# Altium footprint library Library v1.9.PcbLib: 90 footprints (part 3 of 6)
Each footprint in its own frame and in the unit in brackets; x right, y up, seen from the top. Pads: shape width x height; smd on the part's side, far side on the other; paste and mask are expansions set on the pad; w line width, h text height; cw(c..) or ccw(c..) is an arc to the next point about the centre after c.
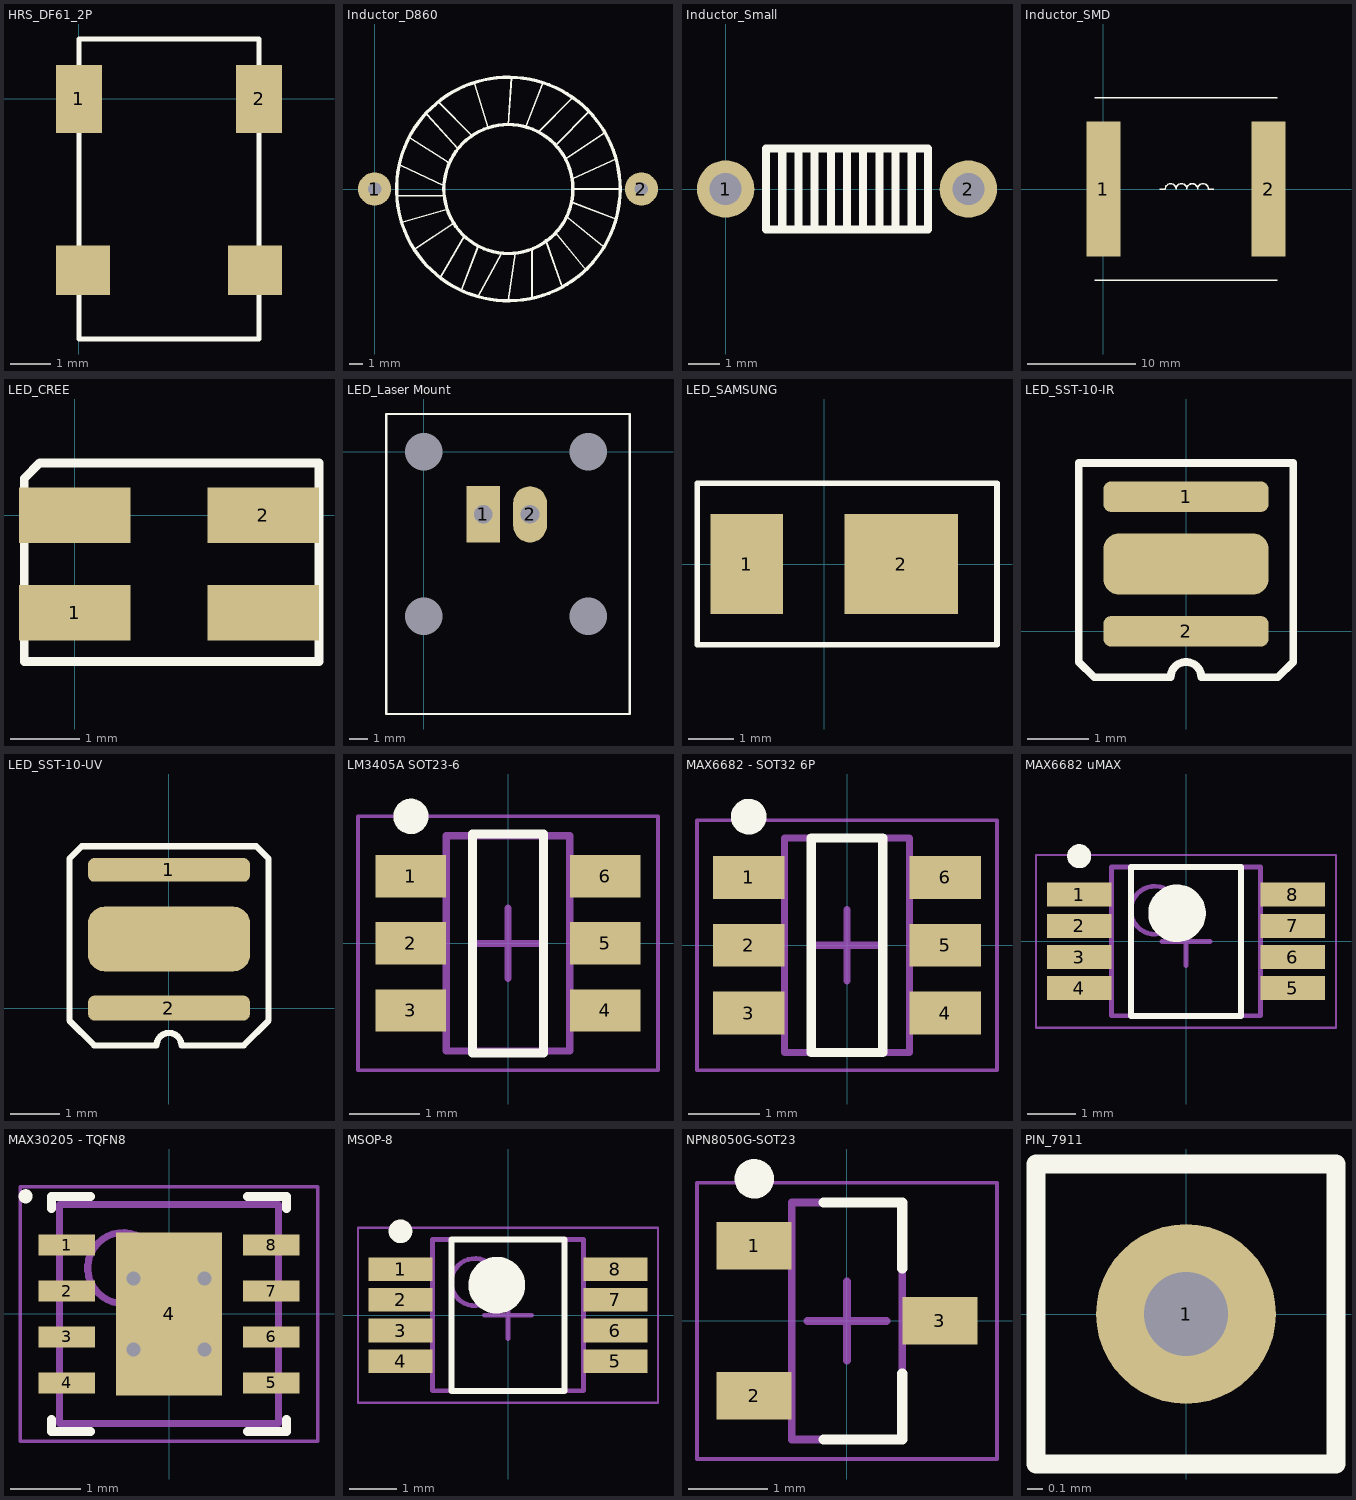
[diagram p2: the footprints below, top view; thin cyan lines are the x and y axes]

## HRS_DF61_2P [mm]
pads (4):
  rect 1.15x1.7 smd: 1(0,0) 2(4.5,0)
  rect 1.35x1.24 smd: ""(0.1,-4.28) ""(4.4,-4.28)
Top Overlay:
  lines w0.127: 0,-6 4.5,-6 4.5,1.5 0,1.5 0,-6

## Inductor_D860 [mm]
pads (2):
  round 2.5 hole 1: 1(0,0) 2(20.066,0)
Top Overlay:
  circle w0.254: c10.06,0 r4.853
  circle w0.254: c10.06,0 r8.413
  lines w0.127: 1.678,-0.508 5.234,-0.508 ; 1.932,-2.54 5.488,-1.524 ; 1.932,1.778 5.234,0.254 ; 2.694,3.81 5.488,2.032 ; 2.948,-4.572 5.996,-2.54 ; 3.951,5.577 6.25,3.048 ; 4.853,6.477 7.266,4.064 ; 4.98,-6.604 6.758,-3.556 ; 6.504,-7.62 7.774,-4.318 ; 7.52,7.874 8.536,4.572 ; 7.774,-8.128 9.552,-4.826 ; 10.06,-8.382 10.568,-4.826 ; 10.06,4.826 10.297,8.382 ; 11.33,4.572 12.6,7.874 ; 11.838,-8.128 11.838,-4.572 ; 12.346,4.318 14.886,6.858 ; 12.854,-3.81 14.124,-7.366 ; 13.616,-3.302 15.902,-6.096 ; 13.616,3.302 16.156,5.842 ; 14.378,-2.032 17.172,-4.318 ; 14.378,2.286 17.25,4.201 ; 14.886,-1.016 18.188,-2.286 ; 14.886,0.762 18.188,2.286 ; 14.913,0 18.473,0

## Inductor_Small [mm]
pads (2):
  round 1.8 hole 1: 1(0,0) 2(7.62,0)
Top Overlay:
  lines w0.254: 1.778,-1.27 1.778,1.27 ; 2.286,-1.27 2.286,1.27 ; 2.794,-1.27 2.794,1.27 ; 3.302,-1.27 3.302,1.27 ; 3.81,-1.27 3.81,1.27 ; 4.318,-1.27 4.318,1.27 ; 4.826,-1.27 4.826,1.27 ; 5.334,-1.27 5.334,1.27 ; 5.842,-1.27 5.842,1.27 ; 1.27,-1.27 6.35,-1.27 6.35,1.27 1.27,1.27 1.27,-1.27

## Inductor_SMD [mm]
pads (2):
  rect 3.15x12.5 smd: 1(0,0) 2(15.35,0)
Top Overlay:
  lines w0.127: -0.775,-8.45 16.125,-8.45 ; -0.775,8.45 16.125,8.45 ; 5.25,0 5.75,0 cw(c6.25,0) 6.75,0 cw(c7.25,0) 7.75,0 cw(c8.25,0) 8.75,0 cw(c9.25,0) 9.75,0 10.25,0

## LED_CREE [mm]
pads (4):
  rect 1.6x0.8 smd: 1(0,-1.4) 2(2.7,0) ""(0,0) ""(2.7,-1.4)
Top Overlay:
  lines w0.127: -0.725,-2.1 -0.725,0.525 -0.5,0.75 3.5,0.75 3.5,-2.1 -0.725,-2.1

## LED_Laser Mount [mm]
pads (6):
  rect 1.8x3 hole 1: 1(3.175,-3.353)
  oval 1.8x3 hole 1: 2(5.675,-3.353)
  round 0 hole 2: ""(0,-8.775) ""(8.775,-8.775) ""(8.775,0)
  rect 0x0 hole 2: ""(0,0)
Top Overlay:
  lines w0.127: -2,-14 -2,2 11,2 11,-14 -2,-14

## LED_SAMSUNG [mm]
pads (2):
  rect 1.6x2.2 smd: 1(-1.7,0)
  rect 2.5x2.2 smd: 2(1.7,0)
Top Overlay:
  lines w0.127: -2.794,-1.778 -2.794,0.744 -2.794,1.778 3.81,1.778 3.81,-1.778 -2.794,-1.778

## LED_SST-10-IR [mm]
height 2
pads (3):
  rrect50% 2.7x0.5 smd: 1(0,2.2) 2(0,0)
  rrect50% 2.7x1 smd: ""(0,1.1)
Top Overlay:
  lines w0.127: -1.75,-0.5 -1.5,-0.75 -0.25,-0.75 cw(c0,-0.75) 0.25,-0.75 1.5,-0.75 1.75,-0.5 1.75,2.75 -1.75,2.75 -1.75,-0.5

## LED_SST-10-UV [mm]
height 2
pads (3):
  rrect50% 3.25x0.475 smd: 1(0,2.775)
  rrect50% 3.25x0.5 smd: 2(0,0)
  rrect50% 3.25x1.3 smd: ""(0,1.388)
Top Overlay:
  lines w0.127: -2,-0.25 -1.5,-0.75 -0.25,-0.75 cw(c0,-0.75) 0.25,-0.75 1.5,-0.75 2,-0.25 2,3 1.75,3.25 -1.75,3.25 -2,3 -2,-0.25

## LM3405A SOT23-6 [mm]
height 1.1
pads (6):
  rect 1x0.6 smd: 1(-1.375,0.95) 2(-1.375,0) 3(-1.375,-0.95) 4(1.375,-0.95) 5(1.375,0) 6(1.375,0.95)
Top Overlay:
  circle w0.25: c-1.375,1.8 r0.125
  lines w0.127: -0.5,-1.55 -0.5,1.55 0.5,1.55 0.5,-1.55 -0.5,-1.55
Mechanical 13:
  lines w0.1: -0.875,-1.525 0.875,-1.525 0.875,1.525 -0.875,1.525 -0.875,-1.525
Mechanical 15:
  lines w0.05: -2.125,-1.8 2.125,-1.8 2.125,1.8 -2.125,1.8 -2.125,-1.8
  lines w0.1: -0.5,0 0.5,0 ; 0,-0.5 0,0.5
3D body "LM3405A SOT23-6.step": height 1.1, standoff 0, extent -1.525,-1.525 1.525,1.525

## MAX6682 - SOT32 6P [mm] "SOT23, 6-Leads, Body 2.90x2.80mm, Pitch 0.95mm, IPC Medium Density"
height 1.45
pads (6):
  rect 1x0.6 smd: 1(-1.375,0.95) 2(-1.375,0) 3(-1.375,-0.95) 4(1.375,-0.95) 5(1.375,0) 6(1.375,0.95)
Top Overlay:
  circle w0.25: c-1.375,1.8 r0.125
  lines w0.127: -0.5,-1.5 0.5,-1.5 0.5,1.5 -0.5,1.5 -0.5,-1.5
Mechanical 13:
  lines w0.1: -0.875,-1.5 -0.875,1.5 0.875,1.5 0.875,-1.5 -0.875,-1.5
Mechanical 15:
  lines w0.05: -2.1,-1.75 -2.1,1.75 2.1,1.75 2.1,-1.75 -2.1,-1.75
  lines w0.1: -0.5,0 0.5,0 ; 0,-0.5 0,0.5
3D body "MAX6682 - SOT32 6P.step": height 1.45, standoff 0, extent -1.5,-1.5 1.5,1.5

## MAX6682 uMAX [mm]
height 1.1
pads (8):
  rect 1.35x0.5 smd: 1(-2.225,0.975) 2(-2.225,0.325) 3(-2.225,-0.325) 4(-2.225,-0.975) 5(2.225,-0.975) 6(2.225,-0.325) 7(2.225,0.325) 8(2.225,0.975)
Top Overlay:
  circle w0.25: c-2.225,1.775 r0.125
  circle w0.6: c-0.186,0.586 r0.3
  lines w0.127: -1.15,-1.55 -1.15,1.55 1.15,1.55 1.15,-1.55 -1.15,-1.55
Mechanical 13:
  circle w0.1: c-0.65,0.65 r0.5
  lines w0.1: -1.55,-1.55 -1.55,1.55 1.55,1.55 1.55,-1.55 -1.55,-1.55
Mechanical 15:
  lines w0.05: -3.125,-1.8 -3.125,1.8 3.125,1.8 3.125,-1.8 -3.125,-1.8
  lines w0.1: -0.5,0 0.5,0 ; 0,-0.5 0,0.5
3D body "MAX6682 uMAX.step": height 1.1, standoff 0, extent -2.452,-1.55 2.452,1.55

## MAX30205 - TQFN8 [mm]
height 0.8
pads (9):
  rect 0.8x0.3 smd: 1(-1.445,0.975) 2(-1.445,0.325) 3(-1.445,-0.325) 4(-1.445,-0.975) 5(1.445,-0.975) 6(1.445,-0.325) 7(1.445,0.325) 8(1.445,0.975)
  rect 1.5x2.3 smd paste-0.75: 4(0,0)
via 0.5,-0.5 diameter 0.5 hole 0.2
via -0.5,-0.5 diameter 0.5 hole 0.2
via 0.5,0.5 diameter 0.5 hole 0.2
via -0.5,0.5 diameter 0.5 hole 0.2
Top Overlay:
  circle w0.1: c-2.027,1.663 r0.05
  lines w0.127: -1.664,-1.489 -1.664,-1.664 -1.109,-1.664 ; -1.664,1.488 -1.664,1.663 -1.109,1.663 ; 1.108,-1.664 1.663,-1.664 1.663,-1.489 ; 1.108,1.663 1.663,1.663 1.663,1.488
Top Paste:
  rectangle: 0.64,-2.12 1.52,-0.84
  rectangle: 0.64,-0.64 1.52,0.64
  rectangle: 0.64,0.84 1.52,2.12
  rectangle: -0.44,-2.12 0.44,-0.84
  rectangle: -0.44,-0.64 0.44,0.64
  rectangle: -0.44,0.84 0.44,2.12
  rectangle: -1.52,-2.12 -0.64,-0.84
  rectangle: -1.52,-0.64 -0.64,0.64
  rectangle: -1.52,0.84 -0.64,2.12
Mechanical 13:
  circle w0.1: c-0.65,0.65 r0.5
  lines w0.1: -1.55,-1.55 1.55,-1.55 1.55,1.55 -1.55,1.55 -1.55,-1.55
Mechanical 15:
  lines w0.05: -2.105,-1.8 2.105,-1.8 2.105,1.8 -2.105,1.8 -2.105,-1.8
  lines w0.1: -0.5,0 0.5,0 ; 0,-0.5 0,0.5
3D body "MAX30205 - TQFN8.step": height 0.8, standoff 0, extent -1.551,-1.55 1.551,1.55

## MSOP-8 [mm] "TSOP, 8-Leads, Body 3.00x3.00mm, Pitch 0.65mm, IPC Medium Density"
height 1.1
pads (8):
  rect 1.35x0.5 smd: 1(-2.275,0.975) 2(-2.275,0.325) 3(-2.275,-0.325) 4(-2.275,-0.975) 5(2.275,-0.975) 6(2.275,-0.325) 7(2.275,0.325) 8(2.275,0.975)
Top Overlay:
  circle w0.25: c-2.275,1.775 r0.125
  circle w0.6: c-0.236,0.636 r0.3
  lines w0.127: -1.2,-1.6 -1.2,1.6 1.2,1.6 1.2,-1.6 -1.2,-1.6
Mechanical 13:
  circle w0.1: c-0.7,0.7 r0.5
  lines w0.1: -1.6,-1.6 -1.6,1.6 1.6,1.6 1.6,-1.6 -1.6,-1.6
Mechanical 15:
  lines w0.05: -3.175,-1.85 -3.175,1.85 3.175,1.85 3.175,-1.85 -3.175,-1.85
  lines w0.1: -0.5,0 0.5,0 ; 0,-0.5 0,0.5
3D body "MSOP-8.step": height 1.1, standoff 0, extent -2.45,-1.6 2.45,1.6

## NPN8050G-SOT23 [mm] "SOT23, 3-Leads, Body 2.90x2.40mm, Pitch 0.95mm, IPC Medium Density"
height 1.05
pads (3):
  rect 0.95x0.6 smd: 1(-1.175,0.95) 2(-1.175,-0.95) 3(1.175,0)
Top Overlay:
  circle w0.25: c-1.175,1.8 r0.125
  lines w0.127: -0.3,-1.5 0.7,-1.5 0.7,-0.663 ; -0.3,1.5 0.7,1.5 0.7,0.664
Mechanical 13:
  lines w0.1: -0.7,-1.5 0.7,-1.5 0.7,1.5 -0.7,1.5 -0.7,-1.5
Mechanical 15:
  lines w0.05: -1.9,-1.75 1.9,-1.75 1.9,1.75 -1.9,1.75 -1.9,-1.75
  lines w0.1: -0.5,0 0.5,0 ; 0,-0.5 0,0.5
3D body "NPN8050G-SOT23.step": height 1.05, standoff 0, extent -1.275,-1.5 1.275,1.5

## PIN_7911 [mm]
pads (1):
  round 1.2 hole 0.56: 1(0,0)
Top Overlay:
  lines w0.127: -1,-1 1,-1 1,1 -1,1 -1,-1